# EAGLE library part 3-1734839-1 (library CONNECTORs)
31 Position FPC Connector Contacts, Top 0.020" (0.50mm) Surface Mount, Right Angle
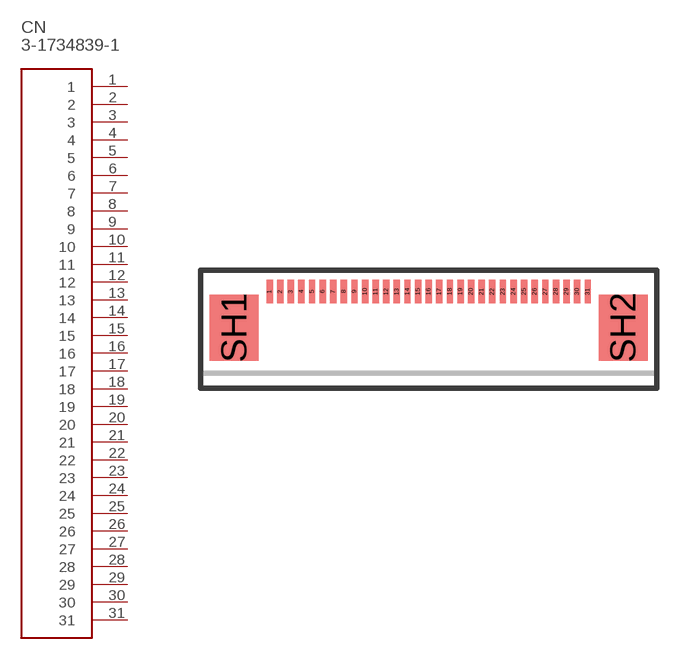
[diagram p43: symbol with the pads of 3-1734839-1; footprint 3-1734839-1]

Designator prefix CN

## 3-1734839-1 (DIGIKEY: A101346CT-ND; HEIGHT: 2.05; PRICE_PER: 1.37; VALUE: 31 PIN FPC)  [3-1734839-1]
1  1
2  2
3  3
4  4
5  5
6  6
7  7
8  8
9  9
10  10
11  11
12  12
13  13
14  14
15  15
16  16
17  17
18  18
19  19
20  20
21  21
22  22
23  23
24  24
25  25
26  26
27  27
28  28
29  29
30  30
31  31

## Footprint 3-1734839-1 (pad centres in mm)
smd 0.3 x 1.1: 1 -7.5,0; 2 -7,0; 3 -6.5,0; 4 -6,0; 5 -5.5,0; 6 -5,0; 7 -4.5,0; 8 -4,0; 9 -3.5,0; 10 -3,0; 11 -2.5,0; 12 -2,0; 13 -1.5,0; 14 -1,0; 15 -0.5,0; 16 0,0; 17 0.5,0; 18 1,0; 19 1.5,0; 20 2,0; 21 2.5,0; 22 3,0; 23 3.5,0; 24 4,0; 25 4.5,0; 26 5,0; 27 5.5,0; 28 6,0; 29 6.5,0; 30 7,0; 31 7.5,0
smd 2.3 x 3.1: SH1 -9.17,-1.7; SH2 9.17,-1.7